# Altium integrated library MAX3232EIDR.IntLib: 1 symbol
Pins are listed as number, name and electrical type; pins without a type are passive.

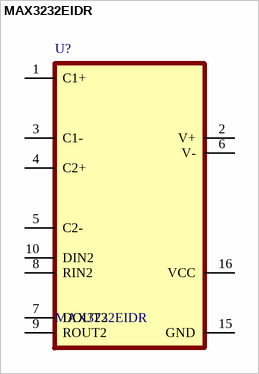
[diagram p0: symbol MAX3232EIDR]

## MAX3232EIDR
designator U?
footprint MAX3232EIDR
pins: 1 C1+, 2 V+, 3 C1-, 4 C2+, 5 C2-, 6 V-, 7 DOUT2, 8 RIN2, 9 ROUT2, 10 DIN2, 15 GND, 16 VCC